# Altium footprint library con-kyocera-elco.PCBLIB: 5 footprints
Each footprint in its own frame and in the unit in brackets; x right, y up, seen from the top. Pads: shape width x height; smd on the part's side, far side on the other; paste and mask are expansions set on the pad; w line width, h text height; cw(c..) or ccw(c..) is an arc to the next point about the centre after c.
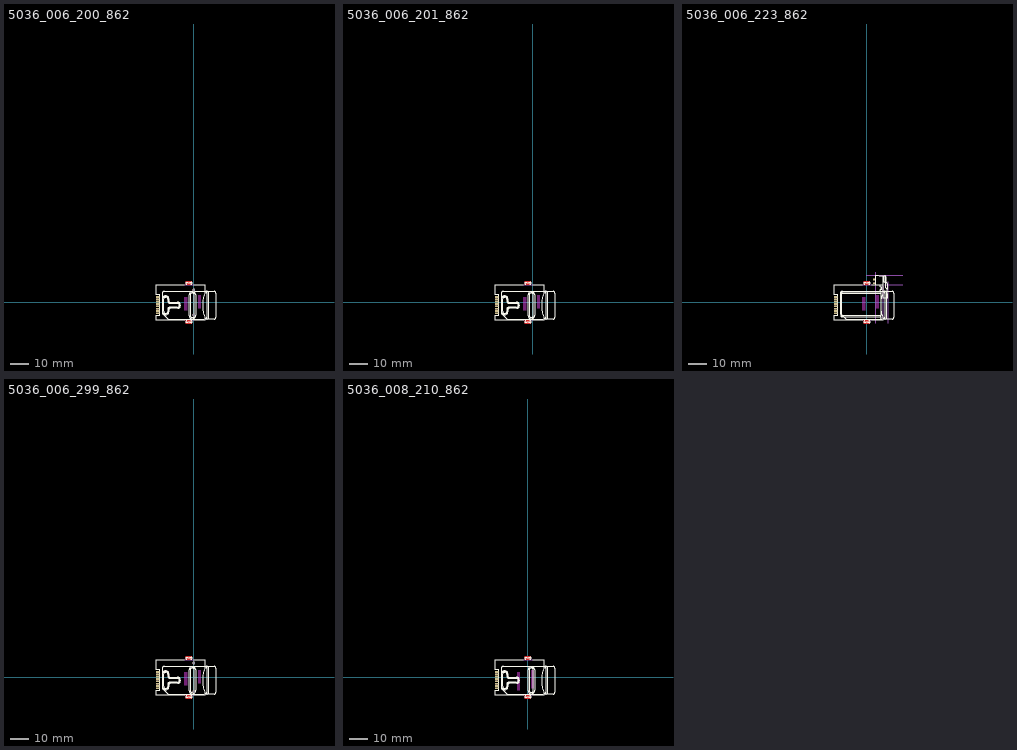
[diagram p0: the footprints below, top view; thin cyan lines are the x and y axes]

## 5036_006_200_862 [mm]
pads (10):
  round 1.5 hole 1.5: 1(0,-6.76) 1(0,6.76)
  rect 1.9x0.95 smd: C1(-19.55,2.98) C2(-19.55,0.44) C3(-19.55,-2.1) C5(-19.55,1.71) C6(-19.55,-0.83) C7(-19.55,-3.37) C/D@1(-19.55,-4.64) C/D@2(-19.55,-5.91)
Top Layer:
  rectangle: -4.5,9.33 -0.8,11.63
  region: -0.8,-9.33 -4.5,-9.33 -4.5,-11.63 -0.8,-11.63
Top Layer keep-out:
  rectangle: -5.15,-4.46 -3.45,3.02
  rectangle: 2.35,-3.41 4.05,4.07
Top Overlay:
  lines w0.102: -16.96,-5 ccw(c-15.34,-4.98) -15.32,-6.6 -15.08,-6.6 ccw(c-15.08,-4.92) -13.4,-4.92 -13.4,-3.8 cw(c-12.88,-3.8) -12.88,-3.28 -8.72,-3.28 ccw(c-8.72,-1.76) -7.2,-1.76 -7.2,-1.4 ccw(c-8.8,-1.4) -8.8,0.2 -12.92,0.2 cw(c-12.92,0.68) -13.4,0.68 -13.4,1.88 ccw(c-15.04,1.88) -15.04,3.52 -15.32,3.52 ccw(c-15.32,1.88) -16.96,1.88 ; 5.436,-9.033 -13.07,-9.033 cw(c-13.37,66.741) -13.67,-9.033 cw(c-13.667,-8.351) -14.149,-8.833 -16.747,-6.235 cw(c-16.119,-5.636) -16.987,-5.636 -16.987,5.036 cw(c-16.028,5.036) -16.028,5.995 5.956,5.995 ; 5.956,-9.033 5.995,-9.033 ccw(c5.995,-7.994) 7.035,-7.994 7.035,4.996 ccw(c6.036,4.996) 6.036,5.995 ; 6.675,5.995 7.035,5.995 cw(c7.035,4.996) 8.034,4.996 8.034,-8.034 cw(c7.035,-8.034) 7.035,-9.033 ; 7.634,5.995 11.072,5.995 cw(c11.072,5.076) 11.991,5.076 11.991,-8.114 cw(c11.072,-8.114) 11.072,-9.033 7.714,-9.033 ; -16.32,-4.88 ccw(c-15.24,-4.88) -15.24,-5.96 -15.08,-5.96 ccw(c-15.08,-4.92) -14.04,-4.92 -14.04,-3.72 cw(c-13,-3.72) -13,-2.68 -8.84,-2.68 ccw(c-8.84,-1.68) -7.84,-1.68 -7.84,-1.44 ccw(c-8.84,-1.44) -8.84,-0.44 -12.84,-0.44 cw(c-12.84,0.76) -14.04,0.76 -14.04,1.8 ccw(c-15.12,1.8) -15.12,2.88 -15.36,2.88 ccw(c-15.36,1.92) -16.32,1.92 -16.32,-4.88 ; -2.478,-7.235 ccw(c-0.919,-7.235) -0.919,-8.793 -0.679,-8.793 ccw(c-0.68,-7.075) 1.039,-7.075 1.039,4.037 ccw(c-0.64,4.037) -0.64,5.716 -0.919,5.716 ccw(c-0.919,4.157) -2.478,4.157 -2.478,-7.235 ; -1.879,-7.155 -1.879,4.077 cw(c-0.879,4.077) -0.879,5.076 -0.679,5.076 cw(c-0.679,3.997) 0.4,3.997 0.4,-7.155 cw(c-0.6,-7.155) -0.6,-8.154 -0.879,-8.154 cw(c-0.879,-7.155) -1.879,-7.155
  lines w0.203: -5.16,9.575 -20.4,9.575 -20.4,4.125 -18.3,4.125 -18.3,-7.025 -20.4,-7.025 -20.4,-9.695 -4.935,-9.695 ; -3.637,-9.753 cw(c-3.777,-9.773) -3.757,-9.913 -3.877,-9.913 ccw(c-3.897,-10.092) -4.077,-10.073 -4.077,-10.952 ccw(c-3.997,-10.952) -3.997,-11.032 -3.637,-11.032 cw(c-2.598,-12.353) -1.559,-11.032 -1.199,-11.032 ccw(c-1.219,-10.932) -1.119,-10.912 -1.119,-9.993 ccw(c-1.219,-10.013) -1.239,-9.913 -1.439,-9.913 cw(c-1.419,-9.773) -1.559,-9.753 ; -3.637,9.673 ccw(c-3.777,9.693) -3.757,9.833 -3.957,9.833 cw(c-3.977,9.933) -4.077,9.913 -4.077,10.832 cw(c-3.977,10.852) -3.997,10.952 -3.637,10.952 ccw(c-2.598,12.273) -1.559,10.952 -1.199,10.952 cw(c-1.199,10.872) -1.119,10.872 -1.119,9.993 cw(c-1.299,10.013) -1.319,9.833 -1.439,9.833 ccw(c-1.419,9.693) -1.559,9.673 ; -0.08,-9.695 5.86,-9.695 5.9,-7.769 cw(c23.075,-1.511) 5.9,4.746 5.9,9.575 -0.08,9.575
Top Paste:
  rectangle: -4.375,9.45 -0.925,11.5
  rectangle: -4.375,-11.51 -0.925,-9.46
Top Solder:
  rectangle: -4.625,9.175 -0.675,11.75
  rectangle: -4.625,-11.785 -0.675,-9.21
Mechanical 16:
  rectangle: -20.218,2.642 -19.226,3.327
  rectangle: -19.226,2.743 -18.386,3.2
  rectangle: -20.193,-4.953 -18.375,-4.343
  rectangle: -20.218,1.372 -19.226,2.057
  rectangle: -19.226,1.473 -18.386,1.93
  rectangle: -20.218,0.102 -19.226,0.787
  rectangle: -19.226,0.203 -18.386,0.66
  rectangle: -20.218,-1.168 -19.226,-0.483
  rectangle: -19.226,-1.067 -18.386,-0.61
  rectangle: -20.218,-2.438 -19.226,-1.753
  rectangle: -19.226,-2.337 -18.386,-1.88
  rectangle: -20.218,-3.708 -19.226,-3.023
  rectangle: -19.226,-3.607 -18.386,-3.15
  rectangle: -20.193,-6.223 -18.375,-5.613
  lines w0.203: -5.16,9.575 -0.08,9.575 ; -4.935,-9.695 -0.09,-9.695

## 5036_006_201_862 [mm]
pads (8):
  rect 1.9x0.95 smd: C1(-19.55,2.98) C2(-19.55,0.44) C3(-19.55,-2.1) C5(-19.55,1.71) C6(-19.55,-0.83) C7(-19.55,-3.37) C/D@1(-19.55,-4.64) C/D@2(-19.55,-5.91)
Top Layer:
  rectangle: -4.5,9.33 -0.8,11.63
  region: -0.8,-9.33 -4.5,-9.33 -4.5,-11.63 -0.8,-11.63
Top Layer keep-out:
  rectangle: -5.15,-4.46 -3.45,3.02
  rectangle: 2.35,-3.41 4.05,4.07
Top Overlay:
  lines w0.102: -16.96,-5 ccw(c-15.34,-4.98) -15.32,-6.6 -15.08,-6.6 ccw(c-15.08,-4.92) -13.4,-4.92 -13.4,-3.8 cw(c-12.88,-3.8) -12.88,-3.28 -8.72,-3.28 ccw(c-8.72,-1.76) -7.2,-1.76 -7.2,-1.4 ccw(c-8.8,-1.4) -8.8,0.2 -12.92,0.2 cw(c-12.92,0.68) -13.4,0.68 -13.4,1.88 ccw(c-15.04,1.88) -15.04,3.52 -15.32,3.52 ccw(c-15.32,1.88) -16.96,1.88 ; 5.436,-9.033 -13.07,-9.033 cw(c-13.37,66.741) -13.67,-9.033 cw(c-13.667,-8.351) -14.149,-8.833 -16.747,-6.235 cw(c-16.119,-5.636) -16.987,-5.636 -16.987,5.036 cw(c-16.028,5.036) -16.028,5.995 5.956,5.995 ; 5.956,-9.033 5.995,-9.033 ccw(c5.995,-7.994) 7.035,-7.994 7.035,4.996 ccw(c6.036,4.996) 6.036,5.995 ; 6.675,5.995 7.035,5.995 cw(c7.035,4.996) 8.034,4.996 8.034,-8.034 cw(c7.035,-8.034) 7.035,-9.033 ; 7.634,5.995 11.072,5.995 cw(c11.072,5.076) 11.991,5.076 11.991,-8.114 cw(c11.072,-8.114) 11.072,-9.033 7.714,-9.033 ; -16.32,-4.88 ccw(c-15.24,-4.88) -15.24,-5.96 -15.08,-5.96 ccw(c-15.08,-4.92) -14.04,-4.92 -14.04,-3.72 cw(c-13,-3.72) -13,-2.68 -8.84,-2.68 ccw(c-8.84,-1.68) -7.84,-1.68 -7.84,-1.44 ccw(c-8.84,-1.44) -8.84,-0.44 -12.84,-0.44 cw(c-12.84,0.76) -14.04,0.76 -14.04,1.8 ccw(c-15.12,1.8) -15.12,2.88 -15.36,2.88 ccw(c-15.36,1.92) -16.32,1.92 -16.32,-4.88 ; -2.478,-7.235 ccw(c-0.919,-7.235) -0.919,-8.793 -0.679,-8.793 ccw(c-0.68,-7.075) 1.039,-7.075 1.039,4.037 ccw(c-0.64,4.037) -0.64,5.716 -0.919,5.716 ccw(c-0.919,4.157) -2.478,4.157 -2.478,-7.235 ; -1.879,-7.155 -1.879,4.077 cw(c-0.879,4.077) -0.879,5.076 -0.679,5.076 cw(c-0.679,3.997) 0.4,3.997 0.4,-7.155 cw(c-0.6,-7.155) -0.6,-8.154 -0.879,-8.154 cw(c-0.879,-7.155) -1.879,-7.155
  lines w0.203: -5.16,9.575 -20.4,9.575 -20.4,4.125 -18.3,4.125 -18.3,-7.025 -20.4,-7.025 -20.4,-9.695 -4.935,-9.695 ; -3.637,-9.753 cw(c-3.777,-9.773) -3.757,-9.913 -3.877,-9.913 ccw(c-3.897,-10.092) -4.077,-10.073 -4.077,-10.952 ccw(c-3.997,-10.952) -3.997,-11.032 -3.637,-11.032 cw(c-2.598,-12.353) -1.559,-11.032 -1.199,-11.032 ccw(c-1.219,-10.932) -1.119,-10.912 -1.119,-9.993 ccw(c-1.219,-10.013) -1.239,-9.913 -1.439,-9.913 cw(c-1.419,-9.773) -1.559,-9.753 ; -3.637,9.673 ccw(c-3.777,9.693) -3.757,9.833 -3.957,9.833 cw(c-3.977,9.933) -4.077,9.913 -4.077,10.832 cw(c-3.977,10.852) -3.997,10.952 -3.637,10.952 ccw(c-2.598,12.273) -1.559,10.952 -1.199,10.952 cw(c-1.199,10.872) -1.119,10.872 -1.119,9.993 cw(c-1.299,10.013) -1.319,9.833 -1.439,9.833 ccw(c-1.419,9.693) -1.559,9.673 ; -0.08,-9.695 5.86,-9.695 5.9,-7.769 cw(c23.075,-1.511) 5.9,4.746 5.9,9.575 -0.08,9.575
Top Paste:
  rectangle: -4.375,9.45 -0.925,11.5
  rectangle: -4.375,-11.51 -0.925,-9.46
Top Solder:
  rectangle: -4.625,9.175 -0.675,11.75
  rectangle: -4.625,-11.785 -0.675,-9.21
Mechanical 16:
  rectangle: -20.218,2.642 -19.226,3.327
  rectangle: -19.226,2.743 -18.386,3.2
  rectangle: -20.193,-4.953 -18.375,-4.343
  rectangle: -20.218,1.372 -19.226,2.057
  rectangle: -19.226,1.473 -18.386,1.93
  rectangle: -20.218,0.102 -19.226,0.787
  rectangle: -19.226,0.203 -18.386,0.66
  rectangle: -20.218,-1.168 -19.226,-0.483
  rectangle: -19.226,-1.067 -18.386,-0.61
  rectangle: -20.218,-2.438 -19.226,-1.753
  rectangle: -19.226,-2.337 -18.386,-1.88
  rectangle: -20.218,-3.708 -19.226,-3.023
  rectangle: -19.226,-3.607 -18.386,-3.15
  rectangle: -20.193,-6.223 -18.375,-5.613
  lines w0.203: -5.16,9.575 -0.08,9.575 ; -4.935,-9.695 -0.09,-9.695

## 5036_006_223_862 [mm]
pads (10):
  rect 1.9x0.95 smd: C1(-16.9,2.98) C2(-16.9,0.44) C3(-16.9,-2.1) C5(-16.9,1.71) C6(-16.9,-0.83) C7(-16.9,-3.37) C/D@1(-16.9,-4.64) C/D@2(-16.9,-5.91)
  rect 1.2x0.9 smd: SW@1(3.95,12.405) SW@2(3.95,10.405)
Top Layer:
  rectangle: -1.85,9.33 1.85,11.63
  region: 1.85,-9.33 -1.85,-9.33 -1.85,-11.63 1.85,-11.63
Top Layer keep-out:
  rectangle: -2.5,-4.46 -0.8,3.02
  rectangle: 5,-3.41 6.7,4.07
Top Overlay:
  lines w0.102: 1.771,5.076 1.971,5.076 ; 8.086,-9.033 -10.42,-9.033 cw(c-10.72,66.741) -11.02,-9.033 cw(c-11.017,-8.351) -11.499,-8.833 -14.098,-6.235 cw(c-13.469,-5.636) -14.337,-5.636 -14.337,5.036 cw(c-13.378,5.036) -13.378,5.995 8.606,5.995 ; 8.606,-9.033 8.645,-9.033 ccw(c8.645,-7.994) 9.685,-7.994 9.685,4.996 ccw(c8.686,4.996) 8.686,5.995 ; 9.325,5.995 9.685,5.995 cw(c9.685,4.996) 10.684,4.996 10.684,-8.034 cw(c9.685,-8.034) 9.685,-9.033 ; 10.284,5.995 13.722,5.995 cw(c13.722,5.076) 14.641,5.076 14.641,-8.114 cw(c13.722,-8.114) 13.722,-9.033 10.364,-9.033
  lines w0.203: -2.51,9.575 -17.75,9.575 -17.75,4.125 -15.65,4.125 -15.65,-7.025 -17.75,-7.025 -17.75,-9.695 -2.285,-9.695 ; -0.987,-9.753 cw(c-1.127,-9.773) -1.107,-9.913 -1.227,-9.913 ccw(c-1.247,-10.092) -1.427,-10.073 -1.427,-10.952 ccw(c-1.347,-10.952) -1.347,-11.032 -0.987,-11.032 cw(c0.052,-12.353) 1.091,-11.032 1.451,-11.032 ccw(c1.431,-10.932) 1.531,-10.912 1.531,-9.993 ccw(c1.431,-10.013) 1.411,-9.913 1.211,-9.913 cw(c1.231,-9.773) 1.091,-9.753 ; -0.987,9.673 ccw(c-1.127,9.693) -1.107,9.833 -1.307,9.833 cw(c-1.327,9.933) -1.427,9.913 -1.427,10.832 cw(c-1.327,10.852) -1.347,10.952 -0.987,10.952 ccw(c0.052,12.273) 1.091,10.952 1.451,10.952 cw(c1.451,10.872) 1.531,10.872 1.531,9.993 cw(c1.351,10.013) 1.331,9.833 1.211,9.833 ccw(c1.231,9.693) 1.091,9.673 ; 2.57,-9.695 8.55,-9.695 8.55,-7.769 cw(c25.725,-1.511) 8.55,4.746 8.55,9.575 2.57,9.575 ; 4.724,9.687 4.724,14.768 6.312,14.768 6.789,14.53 9.647,14.53 cw(c9.647,14.014) 10.163,14.014 10.163,11.195 10.52,10.798 11.156,10.163 11.156,7.146 ; 7.186,-9.647 7.186,-9.091 ; 7.186,9.488 7.186,8.535 ccw(c7.384,8.536) 7.384,8.337 8.019,8.337 8.019,7.186 7.424,7.186 ccw(c7.424,6.947) 7.186,6.947 7.186,5.995 7.464,5.995 7.464,5.637 ; 7.225,-9.369 7.94,-9.369 7.94,-9.568 ; 7.98,-9.091 7.186,-9.091 ; 8.615,14.411 8.655,10.838 ; 9.25,10.917 9.25,14.411 ; 9.726,10.917 9.726,14.411 ; 7.186,-9.091 7.464,-8.853 7.464,-7.821 ; 7.464,-7.821 -13.379,-7.821 cw(c-13.379,-6.987) -14.213,-6.987 -14.213,4.724 cw(c-13.3,4.724) -13.299,5.637 7.464,5.637 ; 7.464,-7.821 7.464,-7.186 ; 7.464,-7.186 7.464,5.082 ; 7.464,-7.186 -13.299,-7.186 cw(c-13.299,-6.947) -13.538,-6.947 -13.538,4.764 cw(c-13.22,4.764) -13.22,5.082 7.464,5.082 ; 7.464,5.082 7.464,5.637 ; 8.655,2.501 8.655,7.424 cw(c8.965,7.722) 8.655,8.019 8.655,10.798 9.766,10.798 cw(c9.759,10.354) 10.203,10.362 10.243,7.94 11.156,7.067 11.195,2.501 8.655,2.501
Top Paste:
  rectangle: -1.725,9.45 1.725,11.5
  rectangle: -1.725,-11.51 1.725,-9.46
Top Solder:
  rectangle: -1.975,9.175 1.975,11.75
  rectangle: -1.975,-11.785 1.975,-9.21
Mechanical 1:
  lines w0: 8.65,-8.65 8.65,8.65
Mechanical 16:
  rectangle: -17.568,2.642 -16.576,3.327
  rectangle: -16.576,2.743 -15.736,3.2
  rectangle: -17.543,-4.953 -15.725,-4.343
  rectangle: -17.568,1.372 -16.576,2.057
  rectangle: -16.576,1.473 -15.736,1.93
  rectangle: -17.568,0.102 -16.576,0.787
  rectangle: -16.576,0.203 -15.736,0.66
  rectangle: -17.568,-1.168 -16.576,-0.483
  rectangle: -16.576,-1.067 -15.736,-0.61
  rectangle: -17.568,-2.438 -16.576,-1.753
  rectangle: -16.576,-2.337 -15.736,-1.88
  rectangle: -17.568,-3.708 -16.576,-3.023
  rectangle: -16.576,-3.607 -15.736,-3.15
  rectangle: -17.543,-6.223 -15.725,-5.613
  rectangle: 3.573,12.069 4.605,12.664
  rectangle: 3.573,10.044 4.605,10.679
  lines w0.203: -2.51,9.575 2.57,9.575 ; -2.285,-9.695 2.56,-9.695
Mechanical 19:
  lines w0: -0.225,14.625 19.35,14.625 ; 4.65,-11.25 4.65,16.2 ; 9.675,9.675 19.35,9.675 ; 11.25,-11.25 11.25,11.25

## 5036_006_299_862 [mm]
pads (10):
  round 1.5 hole 1.5: 1(0,-7.77) 1(0,7.77)
  rect 1.9x0.95 smd: C1(-19.55,2.98) C2(-19.55,0.44) C3(-19.55,-2.1) C5(-19.55,1.71) C6(-19.55,-0.83) C7(-19.55,-3.37) C/D@1(-19.55,-4.64) C/D@2(-19.55,-5.91)
Top Layer:
  rectangle: -4.5,9.33 -0.8,11.63
  region: -0.8,-9.33 -4.5,-9.33 -4.5,-11.63 -0.8,-11.63
Top Layer keep-out:
  rectangle: -5.15,-4.46 -3.45,3.02
  rectangle: 2.35,-3.41 4.05,4.07
Top Overlay:
  lines w0.102: -16.96,-5 ccw(c-15.34,-4.98) -15.32,-6.6 -15.08,-6.6 ccw(c-15.08,-4.92) -13.4,-4.92 -13.4,-3.8 cw(c-12.88,-3.8) -12.88,-3.28 -8.72,-3.28 ccw(c-8.72,-1.76) -7.2,-1.76 -7.2,-1.4 ccw(c-8.8,-1.4) -8.8,0.2 -12.92,0.2 cw(c-12.92,0.68) -13.4,0.68 -13.4,1.88 ccw(c-15.04,1.88) -15.04,3.52 -15.32,3.52 ccw(c-15.32,1.88) -16.96,1.88 ; 5.436,-9.033 -13.07,-9.033 cw(c-13.37,66.741) -13.67,-9.033 cw(c-13.667,-8.351) -14.149,-8.833 -16.747,-6.235 cw(c-16.119,-5.636) -16.987,-5.636 -16.987,5.036 cw(c-16.028,5.036) -16.028,5.995 5.956,5.995 ; 5.956,-9.033 5.995,-9.033 ccw(c5.995,-7.994) 7.035,-7.994 7.035,4.996 ccw(c6.036,4.996) 6.036,5.995 ; 6.675,5.995 7.035,5.995 cw(c7.035,4.996) 8.034,4.996 8.034,-8.034 cw(c7.035,-8.034) 7.035,-9.033 ; 7.634,5.995 11.072,5.995 cw(c11.072,5.076) 11.991,5.076 11.991,-8.114 cw(c11.072,-8.114) 11.072,-9.033 7.714,-9.033 ; -16.32,-4.88 ccw(c-15.24,-4.88) -15.24,-5.96 -15.08,-5.96 ccw(c-15.08,-4.92) -14.04,-4.92 -14.04,-3.72 cw(c-13,-3.72) -13,-2.68 -8.84,-2.68 ccw(c-8.84,-1.68) -7.84,-1.68 -7.84,-1.44 ccw(c-8.84,-1.44) -8.84,-0.44 -12.84,-0.44 cw(c-12.84,0.76) -14.04,0.76 -14.04,1.8 ccw(c-15.12,1.8) -15.12,2.88 -15.36,2.88 ccw(c-15.36,1.92) -16.32,1.92 -16.32,-4.88 ; -2.478,-7.235 ccw(c-0.919,-7.235) -0.919,-8.793 -0.679,-8.793 ccw(c-0.68,-7.075) 1.039,-7.075 1.039,4.037 ccw(c-0.64,4.037) -0.64,5.716 -0.919,5.716 ccw(c-0.919,4.157) -2.478,4.157 -2.478,-7.235 ; -1.879,-7.155 -1.879,4.077 cw(c-0.879,4.077) -0.879,5.076 -0.679,5.076 cw(c-0.679,3.997) 0.4,3.997 0.4,-7.155 cw(c-0.6,-7.155) -0.6,-8.154 -0.879,-8.154 cw(c-0.879,-7.155) -1.879,-7.155
  lines w0.203: -5.16,9.575 -20.4,9.575 -20.4,4.125 -18.3,4.125 -18.3,-7.025 -20.4,-7.025 -20.4,-9.695 -4.935,-9.695 ; -3.637,-9.753 cw(c-3.777,-9.773) -3.757,-9.913 -3.877,-9.913 ccw(c-3.897,-10.092) -4.077,-10.073 -4.077,-10.952 ccw(c-3.997,-10.952) -3.997,-11.032 -3.637,-11.032 cw(c-2.598,-12.353) -1.559,-11.032 -1.199,-11.032 ccw(c-1.219,-10.932) -1.119,-10.912 -1.119,-9.993 ccw(c-1.219,-10.013) -1.239,-9.913 -1.439,-9.913 cw(c-1.419,-9.773) -1.559,-9.753 ; -3.637,9.673 ccw(c-3.777,9.693) -3.757,9.833 -3.957,9.833 cw(c-3.977,9.933) -4.077,9.913 -4.077,10.832 cw(c-3.977,10.852) -3.997,10.952 -3.637,10.952 ccw(c-2.598,12.273) -1.559,10.952 -1.199,10.952 cw(c-1.199,10.872) -1.119,10.872 -1.119,9.993 cw(c-1.299,10.013) -1.319,9.833 -1.439,9.833 ccw(c-1.419,9.693) -1.559,9.673 ; -0.08,-9.695 5.86,-9.695 5.9,-7.769 cw(c23.075,-1.511) 5.9,4.746 5.9,9.575 -0.08,9.575
Top Paste:
  rectangle: -4.375,9.45 -0.925,11.5
  rectangle: -4.375,-11.51 -0.925,-9.46
Top Solder:
  rectangle: -4.625,9.175 -0.675,11.75
  rectangle: -4.625,-11.785 -0.675,-9.21
Mechanical 16:
  rectangle: -20.218,2.642 -19.226,3.327
  rectangle: -19.226,2.743 -18.386,3.2
  rectangle: -20.193,-4.953 -18.375,-4.343
  rectangle: -20.218,1.372 -19.226,2.057
  rectangle: -19.226,1.473 -18.386,1.93
  rectangle: -20.218,0.102 -19.226,0.787
  rectangle: -19.226,0.203 -18.386,0.66
  rectangle: -20.218,-1.168 -19.226,-0.483
  rectangle: -19.226,-1.067 -18.386,-0.61
  rectangle: -20.218,-2.438 -19.226,-1.753
  rectangle: -19.226,-2.337 -18.386,-1.88
  rectangle: -20.218,-3.708 -19.226,-3.023
  rectangle: -19.226,-3.607 -18.386,-3.15
  rectangle: -20.193,-6.223 -18.375,-5.613
  lines w0.203: -5.16,9.575 -0.08,9.575 ; -4.935,-9.695 -0.09,-9.695

## 5036_008_210_862 [mm]
pads (8):
  rect 1.9x0.95 smd: C1(-16.9,2.98) C2(-16.9,0.44) C3(-16.9,-2.1) C4(-16.9,-4.64) C5(-16.9,1.71) C6(-16.9,-0.83) C7(-16.9,-3.37) C8(-16.9,-5.91)
Top Layer:
  rectangle: -1.85,9.33 1.85,11.63
  region: 1.85,-9.33 -1.85,-9.33 -1.85,-11.63 1.85,-11.63
Top Layer keep-out:
  rectangle: -5.8,-6.99 -4.1,3.03
  rectangle: 1.7,-5.97 3.4,4.05
Top Overlay:
  lines w0.102: -14.31,-5 ccw(c-12.69,-4.98) -12.67,-6.6 -12.43,-6.6 ccw(c-12.43,-4.92) -10.75,-4.92 -10.75,-3.8 cw(c-10.23,-3.8) -10.23,-3.28 -6.07,-3.28 ccw(c-6.07,-1.76) -4.55,-1.76 -4.55,-1.4 ccw(c-6.15,-1.4) -6.15,0.2 -10.27,0.2 cw(c-10.27,0.68) -10.75,0.68 -10.75,1.88 ccw(c-12.39,1.88) -12.39,3.52 -12.67,3.52 ccw(c-12.67,1.88) -14.31,1.88 ; 8.086,-9.033 -10.42,-9.033 cw(c-10.72,66.741) -11.02,-9.033 cw(c-11.017,-8.351) -11.499,-8.833 -14.098,-6.235 cw(c-13.469,-5.636) -14.337,-5.636 -14.337,5.036 cw(c-13.378,5.036) -13.378,5.995 8.606,5.995 ; 8.606,-9.033 8.645,-9.033 ccw(c8.645,-7.994) 9.685,-7.994 9.685,4.996 ccw(c8.686,4.996) 8.686,5.995 ; 9.325,5.995 9.685,5.995 cw(c9.685,4.996) 10.684,4.996 10.684,-8.034 cw(c9.685,-8.034) 9.685,-9.033 ; 10.284,5.995 13.722,5.995 cw(c13.722,5.076) 14.641,5.076 14.641,-8.114 cw(c13.722,-8.114) 13.722,-9.033 10.364,-9.033 ; -13.67,-4.88 ccw(c-12.59,-4.88) -12.59,-5.96 -12.43,-5.96 ccw(c-12.43,-4.92) -11.39,-4.92 -11.39,-3.72 cw(c-10.35,-3.72) -10.35,-2.68 -6.19,-2.68 ccw(c-6.19,-1.68) -5.19,-1.68 -5.19,-1.44 ccw(c-6.19,-1.44) -6.19,-0.44 -10.19,-0.44 cw(c-10.19,0.76) -11.39,0.76 -11.39,1.8 ccw(c-12.47,1.8) -12.47,2.88 -12.71,2.88 ccw(c-12.71,1.92) -13.67,1.92 -13.67,-4.88 ; 0.172,-7.235 ccw(c1.731,-7.235) 1.731,-8.793 1.971,-8.793 ccw(c1.97,-7.075) 3.689,-7.075 3.689,4.037 ccw(c2.01,4.037) 2.01,5.716 1.731,5.716 ccw(c1.731,4.157) 0.172,4.157 0.172,-7.235 ; 0.771,-7.155 0.771,4.077 cw(c1.771,4.077) 1.771,5.076 1.971,5.076 cw(c1.971,3.997) 3.05,3.997 3.05,-7.155 cw(c2.05,-7.155) 2.05,-8.154 1.771,-8.154 cw(c1.771,-7.155) 0.771,-7.155
  lines w0.203: -2.51,9.575 -17.75,9.575 -17.75,4.125 -15.65,4.125 -15.65,-7.025 -17.75,-7.025 -17.75,-9.695 -2.285,-9.695 ; -0.987,-9.753 cw(c-1.127,-9.773) -1.107,-9.913 -1.227,-9.913 ccw(c-1.247,-10.092) -1.427,-10.073 -1.427,-10.952 ccw(c-1.347,-10.952) -1.347,-11.032 -0.987,-11.032 cw(c0.052,-12.353) 1.091,-11.032 1.451,-11.032 ccw(c1.431,-10.932) 1.531,-10.912 1.531,-9.993 ccw(c1.431,-10.013) 1.411,-9.913 1.211,-9.913 cw(c1.231,-9.773) 1.091,-9.753 ; -0.987,9.673 ccw(c-1.127,9.693) -1.107,9.833 -1.307,9.833 cw(c-1.327,9.933) -1.427,9.913 -1.427,10.832 cw(c-1.327,10.852) -1.347,10.952 -0.987,10.952 ccw(c0.052,12.273) 1.091,10.952 1.451,10.952 cw(c1.451,10.872) 1.531,10.872 1.531,9.993 cw(c1.351,10.013) 1.331,9.833 1.211,9.833 ccw(c1.231,9.693) 1.091,9.673 ; 2.57,-9.695 8.51,-9.695 8.55,-7.769 cw(c25.725,-1.511) 8.55,4.746 8.55,9.575 2.57,9.575
Top Paste:
  rectangle: -1.725,9.45 1.725,11.5
  rectangle: -1.725,-11.51 1.725,-9.46
Top Solder:
  rectangle: -1.975,9.175 1.975,11.75
  rectangle: -1.975,-11.785 1.975,-9.21
Mechanical 16:
  rectangle: -17.568,2.642 -16.576,3.327
  rectangle: -16.576,2.743 -15.736,3.2
  rectangle: -17.543,-4.953 -15.725,-4.343
  rectangle: -17.568,1.372 -16.576,2.057
  rectangle: -16.576,1.473 -15.736,1.93
  rectangle: -17.568,0.102 -16.576,0.787
  rectangle: -16.576,0.203 -15.736,0.66
  rectangle: -17.568,-1.168 -16.576,-0.483
  rectangle: -16.576,-1.067 -15.736,-0.61
  rectangle: -17.568,-2.438 -16.576,-1.753
  rectangle: -16.576,-2.337 -15.736,-1.88
  rectangle: -17.568,-3.708 -16.576,-3.023
  rectangle: -16.576,-3.607 -15.736,-3.15
  rectangle: -17.543,-6.223 -15.725,-5.613
  lines w0.203: -2.51,9.575 2.57,9.575 ; -2.285,-9.695 2.56,-9.695